# Altium integrated library Lattice FPGA XP2.IntLib: 160 symbols (part 12 of 35)
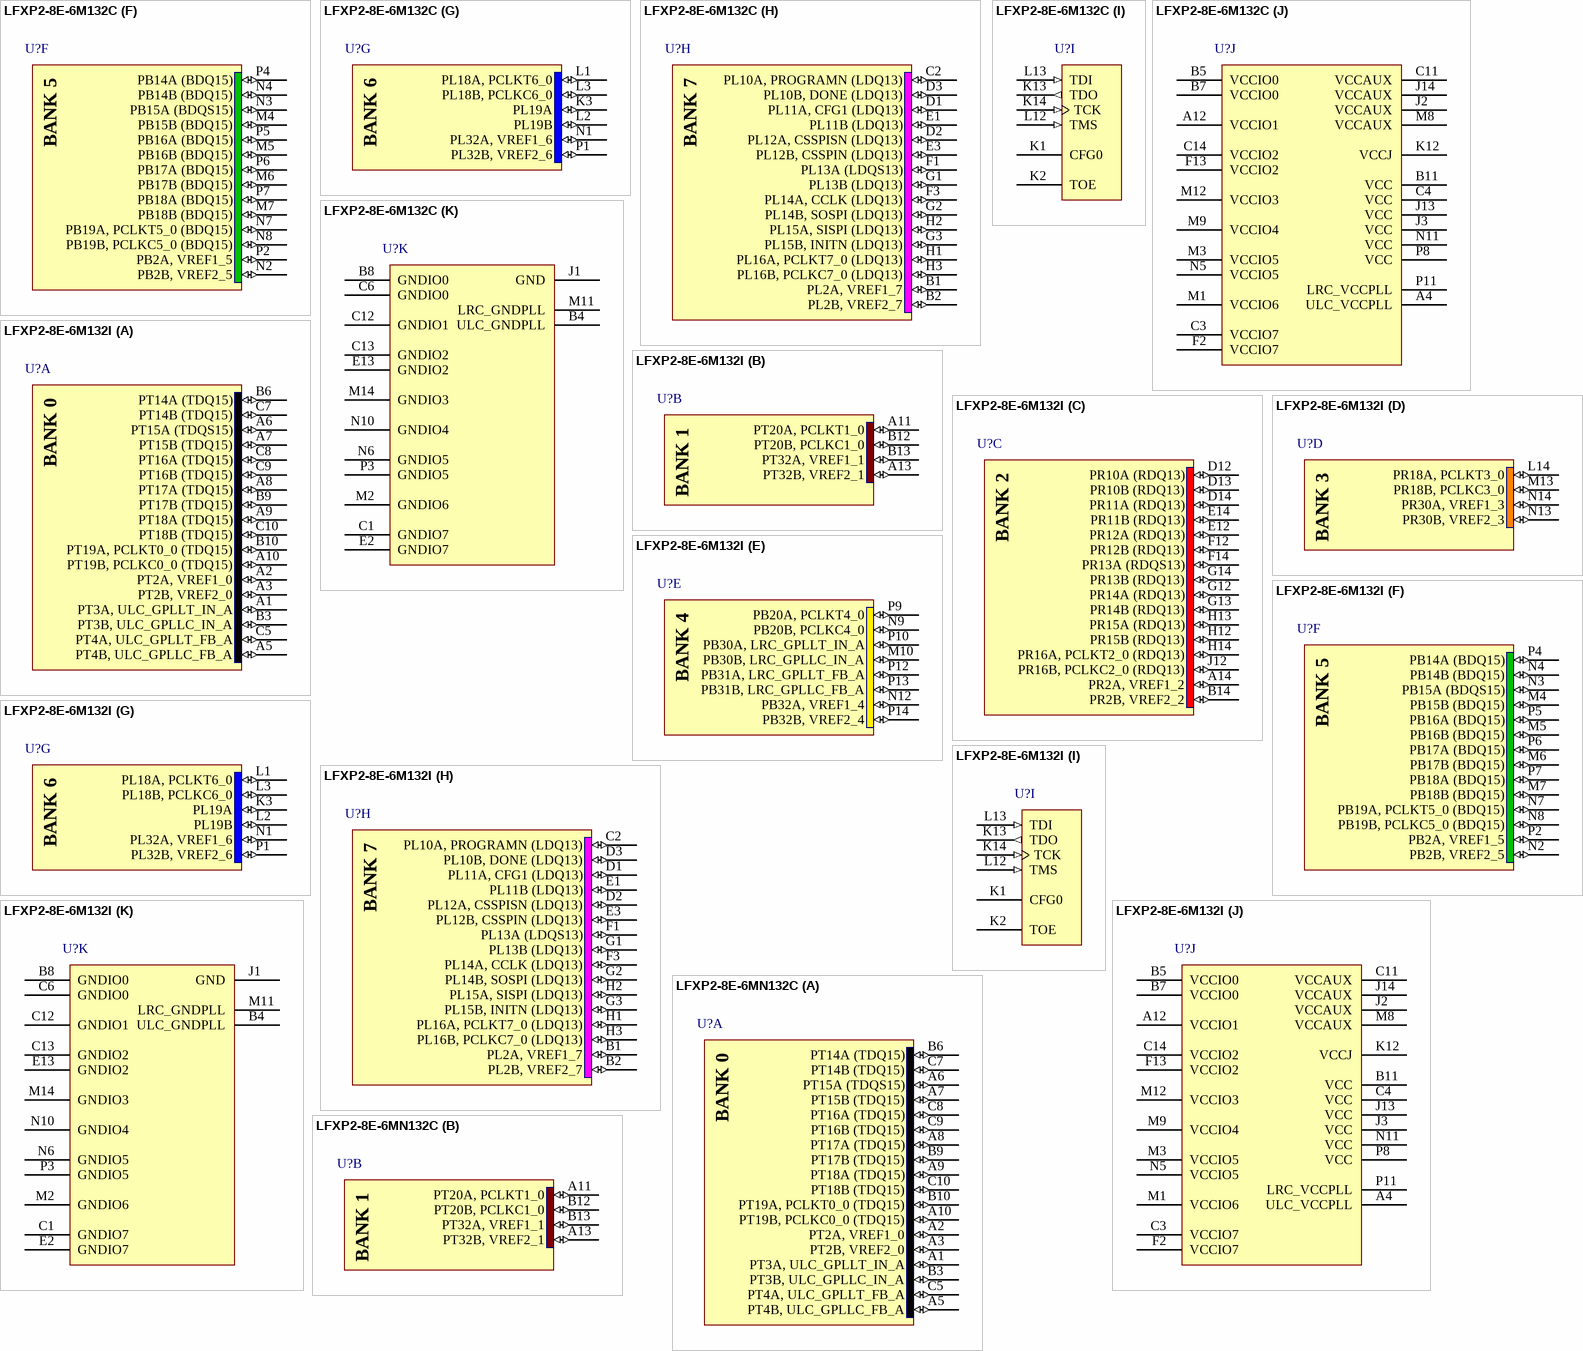
[diagram p278: symbols LFXP2-8E-6M132C to LFXP2-8E-6MN132C]

## LFXP2-8E-6M132C
designator U?
XP2, 1.2V FPGA, 86 I/Os, 8K LUTs, 132-Pin csBGA, Speed Grade 6, Commercial Grade; DatasheetVersion: ver01.8, Jun-2008; PackageVersion: ver02.8, Jul-2011; PackageReference: csBGA132; PackageDescription: 132-Ball Chip Scale Ball Grid Array (csBGA132); ComponentLink1Description: Manufacturer URL; ComponentLink1URL: http://www.latticesemi.com/; ComponentLink2Description: Datasheet; ComponentLink2URL: http://www.latticesemi.com/documents/DS1009.pdf; ComponentLink3Description: Package Specification; ComponentLink3URL: http://www.latticesemi.com/lit/docs/package/pkg.pdf
footprint csBGA132 (BGA, 132-Leads, Body 8x8mm, Pitch 0.5mm)
part A pins: A1 PT3A, ULC_GPLLT_IN_A (io), A2 PT2A, VREF1_0 (io), A3 PT2B, VREF2_0 (io), A5 PT4B, ULC_GPLLC_FB_A (io), A6 PT15A (TDQS15) (io), A7 PT15B (TDQ15) (io), A8 PT17A (TDQ15) (io), A9 PT18A (TDQ15) (io), A10 PT19B, PCLKC0_0 (TDQ15) (io), B3 PT3B, ULC_GPLLC_IN_A (io), B6 PT14A (TDQ15) (io), B9 PT17B (TDQ15) (io), B10 PT19A, PCLKT0_0 (TDQ15) (io), C5 PT4A, ULC_GPLLT_FB_A (io), C7 PT14B (TDQ15) (io), C8 PT16A (TDQ15) (io), C9 PT16B (TDQ15) (io), C10 PT18B (TDQ15) (io)
part B pins: A11 PT20A, PCLKT1_0 (io), A13 PT32B, VREF2_1 (io), B12 PT20B, PCLKC1_0 (io), B13 PT32A, VREF1_1 (io)
part C pins: A14 PR2A, VREF1_2 (io), B14 PR2B, VREF2_2 (io), D12 PR10A (RDQ13) (io), D13 PR10B (RDQ13) (io), D14 PR11A (RDQ13) (io), E12 PR12A (RDQ13) (io), E14 PR11B (RDQ13) (io), F12 PR12B (RDQ13) (io), F14 PR13A (RDQS13) (io), G12 PR14A (RDQ13) (io), G13 PR14B (RDQ13) (io), G14 PR13B (RDQ13) (io), H12 PR15B (RDQ13) (io), H13 PR15A (RDQ13) (io), H14 PR16A, PCLKT2_0 (RDQ13) (io), J12 PR16B, PCLKC2_0 (RDQ13) (io)
part D pins: L14 PR18A, PCLKT3_0 (io), M13 PR18B, PCLKC3_0 (io), N13 PR30B, VREF2_3 (io), N14 PR30A, VREF1_3 (io)
part E pins: M10 PB30B, LRC_GPLLC_IN_A (io), N9 PB20B, PCLKC4_0 (io), N12 PB32A, VREF1_4 (io), P9 PB20A, PCLKT4_0 (io), P10 PB30A, LRC_GPLLT_IN_A (io), P12 PB31A, LRC_GPLLT_FB_A (io), P13 PB31B, LRC_GPLLC_FB_A (io), P14 PB32B, VREF2_4 (io)
part F pins: M4 PB15B (BDQ15) (io), M5 PB16B (BDQ15) (io), M6 PB17B (BDQ15) (io), M7 PB18B (BDQ15) (io), N2 PB2B, VREF2_5 (io), N3 PB15A (BDQS15) (io), N4 PB14B (BDQ15) (io), N7 PB19A, PCLKT5_0 (BDQ15) (io), N8 PB19B, PCLKC5_0 (BDQ15) (io), P2 PB2A, VREF1_5 (io), P4 PB14A (BDQ15) (io), P5 PB16A (BDQ15) (io), P6 PB17A (BDQ15) (io), P7 PB18A (BDQ15) (io)
part G pins: K3 PL19A (io), L1 PL18A, PCLKT6_0 (io), L2 PL19B (io), L3 PL18B, PCLKC6_0 (io), N1 PL32A, VREF1_6 (io), P1 PL32B, VREF2_6 (io)
part H pins: B1 PL2A, VREF1_7 (io), B2 PL2B, VREF2_7 (io), C2 PL10A, PROGRAMN (LDQ13) (io), D1 PL11A, CFG1 (LDQ13) (io), D2 PL12A, CSSPISN (LDQ13) (io), D3 PL10B, DONE (LDQ13) (io), E1 PL11B (LDQ13) (io), E3 PL12B, CSSPIN (LDQ13) (io), F1 PL13A (LDQS13) (io), F3 PL14A, CCLK (LDQ13) (io), G1 PL13B (LDQ13) (io), G2 PL14B, SOSPI (LDQ13) (io), G3 PL15B, INITN (LDQ13) (io), H1 PL16A, PCLKT7_0 (LDQ13) (io), H2 PL15A, SISPI (LDQ13) (io), H3 PL16B, PCLKC7_0 (LDQ13) (io)
part I pins: K1 CFG0, K2 TOE, K13 TDO (out), K14 TCK (in), L12 TMS (in), L13 TDI (in)
part J pins: A4 ULC_VCCPLL (power), A12 VCCIO1 (power), B5 VCCIO0 (power), B7 VCCIO0 (power), B11 VCC (power), C3 VCCIO7 (power), C4 VCC (power), C11 VCCAUX (power), C14 VCCIO2 (power), F2 VCCIO7 (power), F13 VCCIO2 (power), J2 VCCAUX (power), J3 VCC (power), J13 VCC (power), J14 VCCAUX (power), K12 VCCJ (power), M1 VCCIO6 (power), M3 VCCIO5 (power), M8 VCCAUX (power), M9 VCCIO4 (power), M12 VCCIO3 (power), N5 VCCIO5 (power), N11 VCC (power), P8 VCC (power), P11 LRC_VCCPLL (power)
part K pins: B4 ULC_GNDPLL (power), B8 GNDIO0 (power), C1 GNDIO7 (power), C6 GNDIO0 (power), C12 GNDIO1 (power), C13 GNDIO2 (power), E2 GNDIO7 (power), E13 GNDIO2 (power), J1 GND (power), M2 GNDIO6 (power), M11 LRC_GNDPLL (power), M14 GNDIO3 (power), N6 GNDIO5 (power), N10 GNDIO4 (power), P3 GNDIO5 (power)
part A text: BANK 0
part B text: BANK 1
part C text: BANK 2
part D text: BANK 3
part E text: BANK 4
part F text: BANK 5
part G text: BANK 6
part H text: BANK 7